# Altium integrated library G2R-2.IntLib: 1 symbol
Pins are listed as number, name and electrical type; pins without a type are passive.

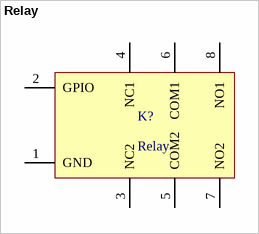
[diagram p0: symbol Relay]

## Relay
designator K?
Designed By @Alixahedi
footprint Relay_1
pins: 1 GND, 2 GPIO, 3 NC2, 4 NC1, 5 COM2, 6 COM1, 7 NO2, 8 NO1